# Altium footprint library tyco-hpi.PcbLib: 23 footprints (part 2 of 2)
Each footprint in its own frame and in the unit in brackets; x right, y up, seen from the top. Pads: shape width x height; smd on the part's side, far side on the other; paste and mask are expansions set on the pad; w line width, h text height; cw(c..) or ccw(c..) is an arc to the next point about the centre after c.
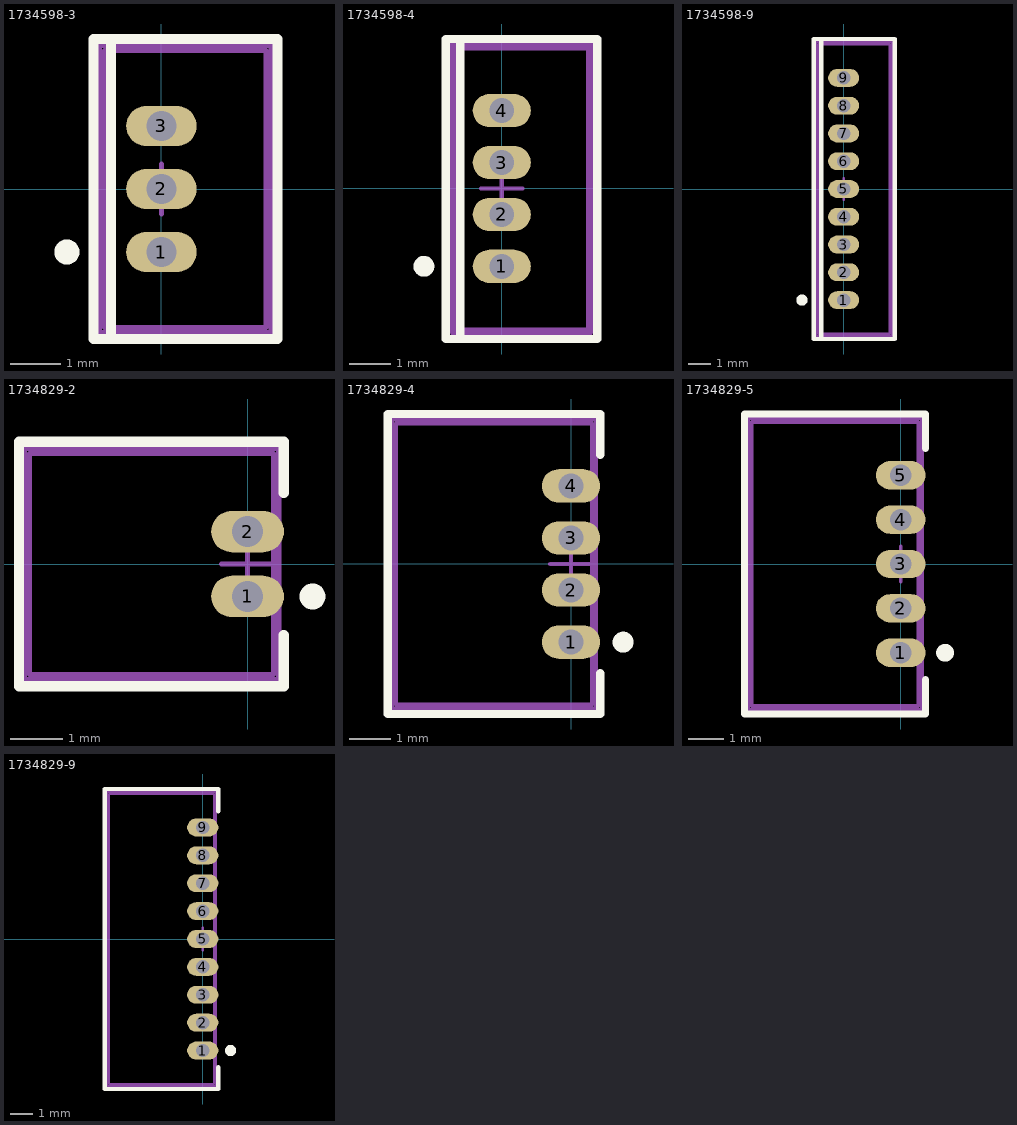
[diagram p1: the footprints below, top view; thin cyan lines are the x and y axes]

## 1734598-3 [mm] "1.25mm Wire to Board Connector"
height 4.7
pads (3):
  oval 1.4x0.8 hole 0.6: 1(0,-1.25) 2(0,0) 3(0,1.25)
Top Overlay:
  circle w0.25: c-1.875,-1.25 r0.125
  lines w0.2: -1,-2.975 -1,2.975 ; -1.35,-2.975 -1.35,2.975 2.3,2.975 2.3,-2.975 -1.35,-2.975
Mechanical 13:
  lines w0.1: -0.5,0 0.5,0 ; 0,-0.5 0,0.5 ; -1.125,-2.75 -1.125,2.75 2.075,2.75 2.075,-2.75 -1.125,-2.75
Mechanical 15:
  lines w0.1: -1.225,-2.85 -1.225,2.85 2.175,2.85 2.175,-2.85 -1.225,-2.85
  text ".Designator" at 1.375,-1.25 h0.5
3D body: height 4.72, standoff -1.68, extent -1.125,-2.75 2.075,2.75

## 1734598-4 [mm] "1.25mm Wire to Board Connector"
height 4.7
pads (4):
  oval 1.4x0.8 hole 0.6: 1(0,-1.875) 2(0,-0.625) 3(0,0.625) 4(0,1.875)
Top Overlay:
  circle w0.25: c-1.875,-1.875 r0.125
  lines w0.2: -1.35,-1.1 -1.35,3.6 2.3,3.6 2.3,-3.625 -1.35,-3.625 -1.35,3.55 ; -1,-3.625 -1,3.6
Mechanical 13:
  lines w0.1: -1.125,3.325 -1.125,-3.4 2.075,-3.4 2.075,3.325 ; -1.125,3.375 2.075,3.375 ; -0.5,0 0.5,0 ; 0,-0.5 0,0.5
Mechanical 15:
  lines w0.1: -1.225,3.475 2.175,3.475 ; -1.2,3.425 -1.2,-3.475 2.15,-3.475 2.15,3.425
  text ".Designator" at 1.375,-1.875 h0.5
3D body: height 4.72, standoff -1.68, extent -1.125,-3.375 2.075,3.375

## 1734598-9 [mm] "1.25mm Wire to Board Connector"
height 4.7
pads (9):
  oval 1.4x0.8 hole 0.6: 1(0,-5) 2(0,-3.75) 3(0,-2.5) 4(0,-1.25) 5(0,0) 6(0,1.25) 7(0,2.5) 8(0,3.75) 9(0,5)
Top Overlay:
  circle w0.25: c-1.875,-5 r0.125
  lines w0.2: -1.35,0.425 -1.35,-6.75 ; -1,-6.75 -1,6.75 ; -1.35,-6.75 -1.35,6.75 2.3,6.75 2.3,-6.75 -1.35,-6.75
Mechanical 13:
  lines w0.1: -0.5,0 0.5,0 ; 0,-0.5 0,0.5 ; -1.125,-6.5 -1.125,6.5 2.075,6.5 2.075,-6.5 -1.125,-6.5
Mechanical 15:
  lines w0.1: -1.225,-6.6 -1.225,6.6 2.175,6.6 2.175,-6.6 -1.225,-6.6
  text ".Designator" at 1.25,-5 h0.5
3D body: height 4.72, standoff -1.68, extent -1.125,-6.5 2.075,6.5

## 1734829-2 [mm] "1.25mm Wire to Board Connector Right Angle"
height 4.7
pads (2):
  oval 1.4x0.8 hole 0.6: 1(0,-0.625) 2(0,0.625)
Top Overlay:
  circle w0.25: c1.25,-0.625 r0.125
  lines w0.2: 0.7,-1.375 0.7,-2.35 -4.4,-2.35 -4.4,2.35 0.7,2.35 0.7,1.375
Mechanical 13:
  lines w0.1: -0.5,0 0.5,0 ; 0,-0.5 0,0.5 ; -4.2,-2.125 0.5,-2.125 0.5,2.125 -4.2,2.125 -4.2,-2.125
Mechanical 15:
  lines w0.1: -4.3,-2.225 0.6,-2.225 0.6,2.225 -4.3,2.225 -4.3,-2.225
  text ".Designator" at -1.2,-1.8 h0.5
3D body: height 3.25, standoff -2.25, extent -4.22,-2.125 0.48,2.125

## 1734829-4 [mm] "1.25mm Wire to Board Connector Right Angle"
height 4.7
pads (4):
  oval 1.4x0.8 hole 0.6: 1(0,-1.875) 2(0,-0.625) 3(0,0.625) 4(0,1.875)
Top Overlay:
  circle w0.25: c1.25,-1.875 r0.125
  lines w0.2: 0.7,-2.625 0.7,-3.6 -4.4,-3.6 -4.4,3.6 0.7,3.6 0.7,2.625
Mechanical 13:
  lines w0.1: -0.5,0 0.5,0 ; 0,-0.5 0,0.5 ; -4.2,-3.375 -4.2,3.375 0.5,3.375 0.5,0.875 0.5,-3.375 -4.2,-3.375
Mechanical 15:
  lines w0.1: -4.3,-3.475 -4.3,3.475 0.6,3.475 0.6,-3.475 -4.3,-3.475
  text ".Designator" at -1.2,-3.05 h0.5
3D body: height 3.25, standoff -2.25, extent -4.22,-3.375 0.48,3.375

## 1734829-5 [mm] "1.25mm Wire to Board Connector Right Angle"
height 4.7
pads (5):
  oval 1.4x0.8 hole 0.6: 1(0,-2.5) 2(0,-1.25) 3(0,0) 4(0,1.25) 5(0,2.5)
Top Overlay:
  circle w0.25: c1.25,-2.5 r0.125
  lines w0.2: 0.7,-3.25 0.7,-4.225 -4.4,-4.225 -4.4,4.225 0.7,4.225 0.7,3.25
Mechanical 13:
  lines w0.1: -0.5,0 0.5,0 ; 0,-0.5 0,0.5 ; -4.2,-4 -4.2,4 0.5,4 0.5,2.75 0.5,0.25 0.5,-4 -4.2,-4
Mechanical 15:
  lines w0.1: -4.3,-4.1 -4.3,4.1 0.6,4.1 0.6,-4.1 -4.3,-4.1
  text ".Designator" at -1.2,-3.675 h0.5
3D body: height 3.25, standoff -2.25, extent -4.22,-4 0.48,4

## 1734829-9 [mm] "1.25mm Wire to Board Connector Right Angle"
height 4.7
pads (9):
  oval 1.4x0.8 hole 0.6: 1(0,-5) 2(0,-3.75) 3(0,-2.5) 4(0,-1.25) 5(0,0) 6(0,1.25) 7(0,2.5) 8(0,3.75) 9(0,5)
Top Overlay:
  circle w0.25: c1.25,-5 r0.125
  lines w0.2: 0.7,-5.75 0.7,-6.725 -4.4,-6.725 -4.4,6.725 0.7,6.725 0.7,5.725
Mechanical 13:
  lines w0.1: -0.5,0 0.5,0 ; 0,-0.5 0,0.5 ; -4.2,-6.5 -4.2,6.5 0.5,6.5 0.5,1.5 0.5,0.25 0.5,-2.25 0.5,-6.5 -4.2,-6.5
Mechanical 15:
  lines w0.1: -4.3,-6.6 -4.3,6.6 0.6,6.6 0.6,-6.6 -4.3,-6.6
  text ".Designator" at -1.2,-6.175 h0.5
3D body: height 3.25, standoff -2.25, extent -4.22,-6.5 0.48,6.5